# Altium footprint library PCB - SWITCH - C&K HDT.PcbLib: 1 footprints
Each footprint in its own frame and in the unit in brackets; x right, y up, seen from the top. Pads: shape width x height; smd on the part's side, far side on the other; paste and mask are expansions set on the pad; w line width, h text height; cw(c..) or ccw(c..) is an arc to the next point about the centre after c.
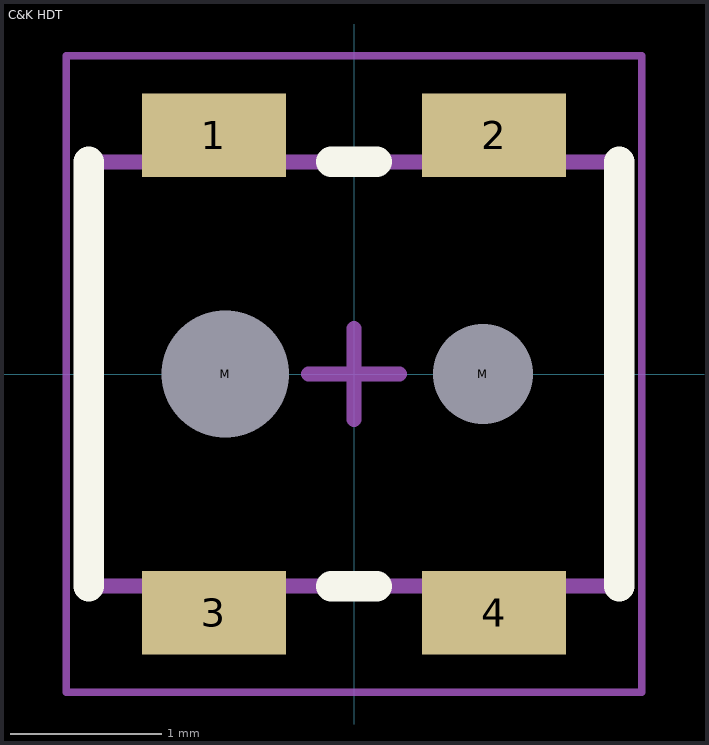
[diagram p0: the footprint, top view; thin cyan lines are the x and y axes]

## C&K HDT [mm] "Limit switch, 4-leads, body 2.8x3.5mm, C&K HDT0001"
height 3.35
pads (6):
  rect 0.95x0.55 smd mask+0.1: 1(-0.925,1.575) 2(0.925,1.575) 3(-0.925,-1.575) 4(0.925,-1.575)
  round 0.1 hole 0.84 unplated mask+0.1: M(-0.85,0)
  round 0.1 hole 0.66 unplated mask+0.1: M(0.85,0)
Top Overlay:
  lines w0.2: -1.75,-1.4 -1.75,1.4 ; -0.15,-1.4 0.15,-1.4 ; -0.15,1.4 0.15,1.4 ; 1.75,-1.4 1.75,1.4
Mechanical 13:
  lines w0.1: -1.75,-1.4 1.75,-1.4 1.75,1.4 -1.75,1.4 -1.75,-1.4
Mechanical 15 (Mech15):
  lines w0.05: -1.9,-2.1 -1.9,2.1 1.9,2.1 1.9,-2.1 -1.9,-2.1
  lines w0.1: -0.3,0 0.3,0 ; 0,-0.3 0,0.3
3D body "C&K - HDT.step": height 3.35, standoff -0.5, extent -1.75,-1.65 1.75,1.65